# Altium footprint library CON-IDC.PcbLib: 62 footprints (part 1 of 4)
Each footprint in its own frame and in the unit in brackets; x right, y up, seen from the top. Pads: shape width x height; smd on the part's side, far side on the other; paste and mask are expansions set on the pad; w line width, h text height; cw(c..) or ccw(c..) is an arc to the next point about the centre after c.
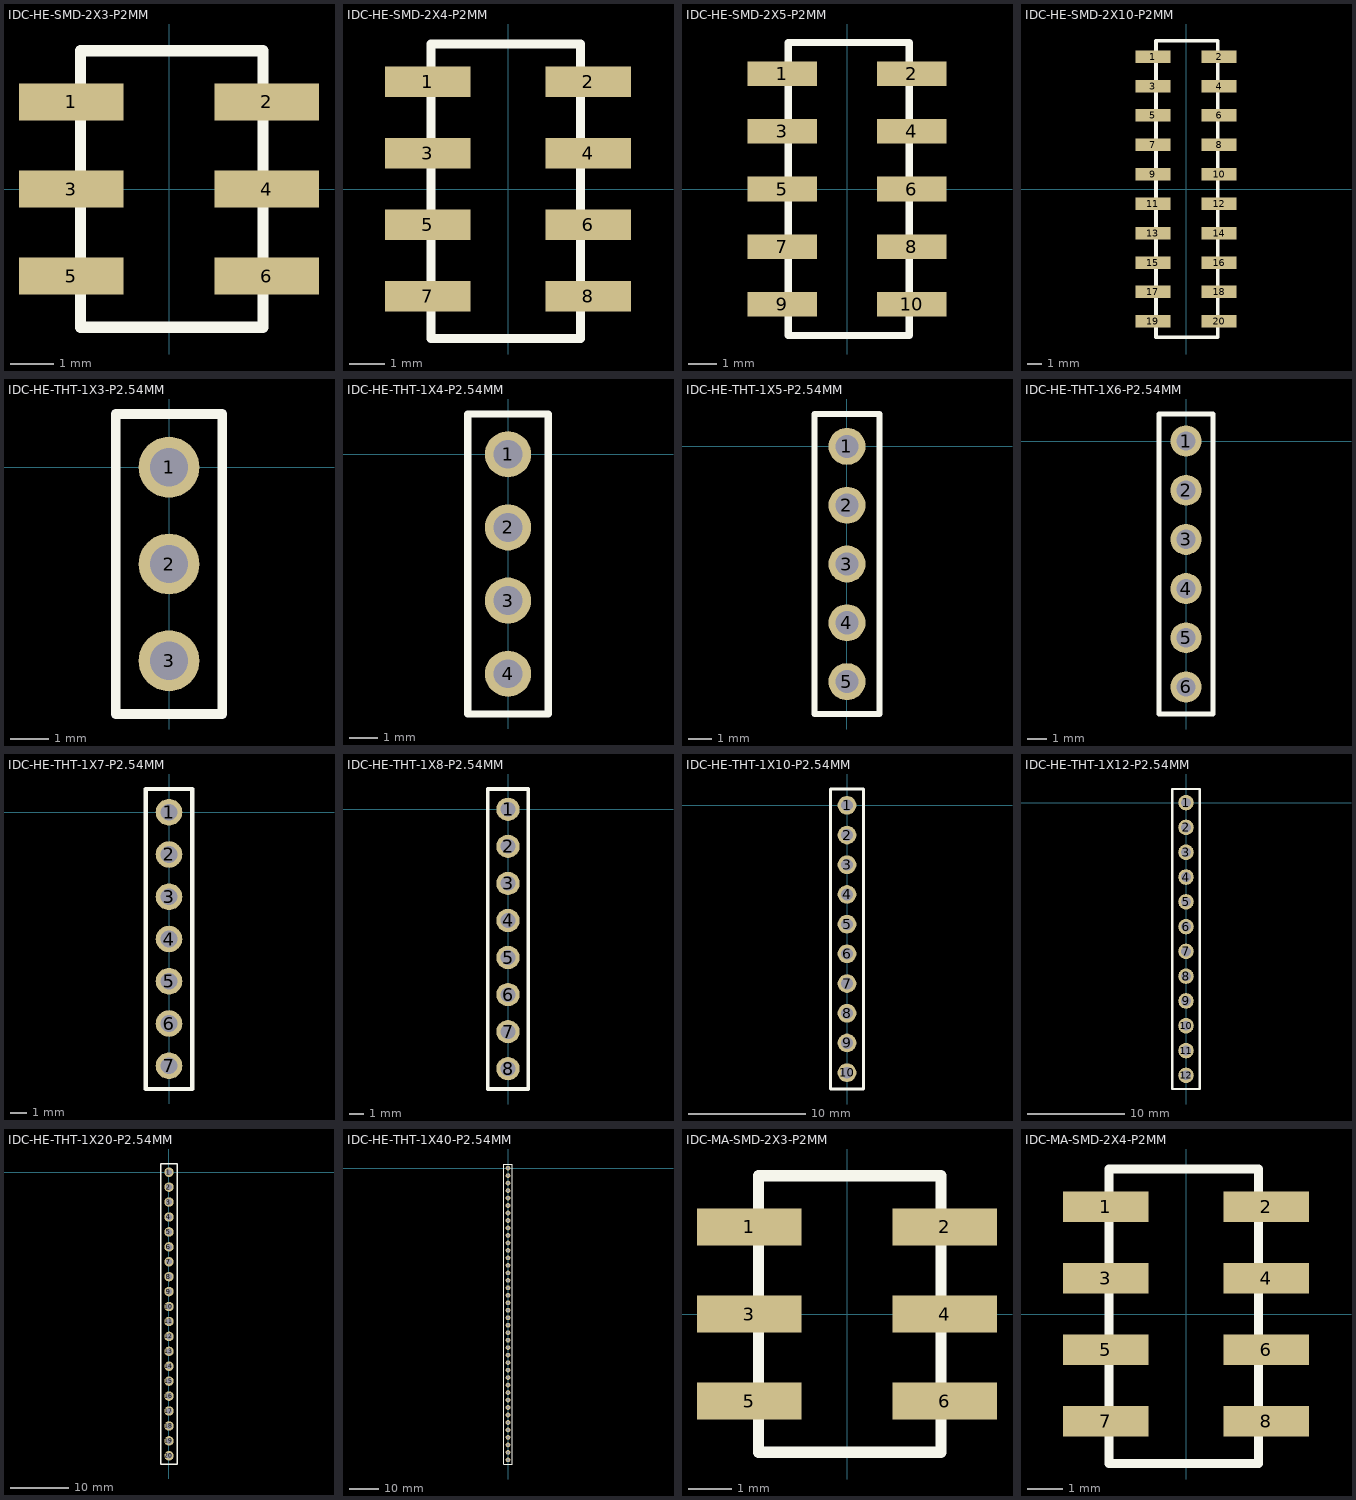
[diagram p0: the footprints below, top view; thin cyan lines are the x and y axes]

## IDC-HE-SMD-2X3-P2MM [mm] "IDC-HE-SMD-2X3-P2MM"
pads (6):
  rect 2.4x0.85 smd: 1(-2.245,2) 2(2.245,2) 3(-2.245,0) 4(2.245,0) 5(-2.245,-2) 6(2.245,-2)
Top Overlay:
  lines w0.254: -2.032,-3.175 2.159,-3.175 2.159,3.175 -2.032,3.175 -2.032,-3.175
3D body "CON-IDC-HE-SMD-2X3-P2MM.stp": height 4, standoff -0.2, extent -3.125,-3.032 3.125,2.968

## IDC-HE-SMD-2X4-P2MM [mm] "IDC-HE-SMD-2X4-P2MM"
pads (8):
  rect 2.4x0.85 smd: 1(-2.245,3) 2(2.245,3) 3(-2.245,1) 4(2.245,1) 5(-2.245,-1) 6(2.245,-1) 7(-2.245,-3) 8(2.245,-3)
Top Overlay:
  lines w0.254: -2.159,-4.191 -2.159,4.064 2.032,4.064 2.032,-4.191 -2.159,-4.191
3D body "CON-IDC-HE-SMD-2X4-P2MM.stp": height 4, standoff -0.2, extent -3.075,-4.063 3.175,3.937

## IDC-HE-SMD-2X5-P2MM [mm] "IDC-HE-SMD-2X5-P2MM"
pads (10):
  rect 2.4x0.85 smd: 1(-2.245,4) 2(2.245,4) 3(-2.245,2) 4(2.245,2) 5(-2.245,0) 6(2.245,0) 7(-2.245,-2) 8(2.245,-2) 9(-2.245,-4) 10(2.245,-4)
Top Overlay:
  lines w0.254: -2.032,-5.08 2.159,-5.08 2.159,5.08 -2.032,5.08 -2.032,-5.08
3D body "CON-IDC-HE-SMD-2X5-P2MM.stp": height 4, standoff -0.2, extent -3.175,-5 3.075,5

## IDC-HE-SMD-2X10-P2MM [mm] "IDC-HE-SMD-2X10-P2MM"
pads (20):
  rect 2.4x0.85 smd: 1(-2.245,9) 2(2.245,9) 3(-2.245,7) 4(2.245,7) 5(-2.245,5) 6(2.245,5) 7(-2.245,3) 8(2.245,3) 9(-2.245,1) 10(2.245,1) 11(-2.245,-1) 12(2.245,-1) 13(-2.245,-3) 14(2.245,-3) 15(-2.245,-5) 16(2.245,-5) 17(-2.245,-7) 18(2.245,-7) 19(-2.245,-9) 20(2.245,-9)
Top Overlay:
  lines w0.254: -2.032,-0.08 -2.032,10.08 2.159,10.08 2.159,-0.08 ; -2.032,0.08 -2.032,-10.08 2.159,-10.08 2.159,0.08
3D body "CON-IDC-HE-SMD-2X10-P2MM.stp": height 4, standoff -0.2, extent -3.125,-9.89 3.125,10.11

## IDC-HE-THT-1X3-P2.54MM [mm] "IDC-HE-THT-1X3-P2.54MM"
pads (3):
  round 1.6 hole 1: 1(0,0) 2(0,-2.54) 3(0,-5.08)
Top Overlay:
  lines w0.254: -1.397,-6.477 -1.397,-5.889 -1.397,-3.937 -1.397,-3.095 -1.397,-1.143 -1.397,-0.301 -1.397,1.397 1.397,1.397 1.397,-0.428 1.397,-1.143 1.397,-3.222 1.397,-3.937 1.397,-6.016 1.397,-6.477 -1.397,-6.477
3D body "CON-HEM.stp": height 8, standoff -3, extent -1.27,-6.35 1.27,-3.81
3D body "CON-HEM.stp": height 8, standoff -3, extent -1.27,-1.27 1.27,1.27
3D body "CON-HEM.stp": height 8, standoff -3, extent -1.27,-3.81 1.27,-1.27

## IDC-HE-THT-1X4-P2.54MM [mm] "IDC-HE-THT-1X4-P2.54MM"
pads (4):
  round 1.6 hole 1: 1(0,0) 2(0,-2.54) 3(0,-5.08) 4(0,-7.62)
Top Overlay:
  lines w0.254: -1.397,-9.017 1.397,-9.017 1.397,-6.016 1.397,-3.937 1.397,-3.222 1.397,-1.143 1.397,-0.428 1.397,1.397 -1.397,1.397 -1.397,-0.301 -1.397,-1.143 -1.397,-3.095 -1.397,-3.937 -1.397,-5.889 -1.397,-9.017
3D body "CON-HEM.stp": height 8, standoff -3, extent -1.27,-8.89 1.27,-6.35
3D body "CON-HEM.stp": height 8, standoff -3, extent -1.27,-3.81 1.27,-1.27
3D body "CON-HEM.stp": height 8, standoff -3, extent -1.27,-1.27 1.27,1.27
3D body "CON-HEM.stp": height 8, standoff -3, extent -1.27,-6.35 1.27,-3.81

## IDC-HE-THT-1X5-P2.54MM [mm] "IDC-HE-THT-1X5-P2.54MM"
pads (5):
  round 1.6 hole 1: 1(0,0) 2(0,-2.54) 3(0,-5.08) 4(0,-7.62) 5(0,-10.16)
Top Overlay:
  lines w0.254: -1.397,-11.557 1.397,-11.557 1.397,-8.556 1.397,-6.477 1.397,-6.016 1.397,-3.937 1.397,-3.222 1.397,-1.143 1.397,-0.428 1.397,1.397 -1.397,1.397 -1.397,-0.301 -1.397,-1.143 -1.397,-3.095 -1.397,-3.937 -1.397,-5.889 -1.397,-6.477 -1.397,-8.429 -1.397,-11.557
3D body "CON-HEM.stp": height 8, standoff -3, extent -1.27,-11.43 1.27,-8.89
3D body "CON-HEM.stp": height 8, standoff -3, extent -1.27,-8.89 1.27,-6.35
3D body "CON-HEM.stp": height 8, standoff -3, extent -1.27,-3.81 1.27,-1.27
3D body "CON-HEM.stp": height 8, standoff -3, extent -1.27,-1.27 1.27,1.27
3D body "CON-HEM.stp": height 8, standoff -3, extent -1.27,-6.35 1.27,-3.81

## IDC-HE-THT-1X6-P2.54MM [mm] "IDC-HE-THT-1X6-P2.54MM"
pads (6):
  round 1.6 hole 1: 1(0,0) 2(0,-2.54) 3(0,-5.08) 4(0,-7.62) 5(0,-10.16) 6(0,-12.7)
Top Overlay:
  lines w0.254: -1.397,-14.097 -1.397,-13.763 -1.397,-11.811 -1.397,-10.969 -1.397,-9.017 -1.397,-8.175 -1.397,-6.477 -1.397,-5.889 -1.397,-3.937 -1.397,-3.095 -1.397,-1.143 -1.397,-0.301 -1.397,1.397 1.397,1.397 1.397,-0.428 1.397,-1.143 1.397,-3.222 1.397,-3.937 1.397,-6.016 1.397,-6.477 1.397,-8.302 1.397,-9.017 1.397,-11.096 1.397,-11.811 1.397,-13.89 1.397,-14.097 -1.397,-14.097
3D body "CON-HEM.stp": height 8, standoff -3, extent -1.27,-13.97 1.27,-11.43
3D body "CON-HEM.stp": height 8, standoff -3, extent -1.27,-8.89 1.27,-6.35
3D body "CON-HEM.stp": height 8, standoff -3, extent -1.27,-11.43 1.27,-8.89
3D body "CON-HEM.stp": height 8, standoff -3, extent -1.27,-3.81 1.27,-1.27
3D body "CON-HEM.stp": height 8, standoff -3, extent -1.27,-1.27 1.27,1.27
3D body "CON-HEM.stp": height 8, standoff -3, extent -1.27,-6.35 1.27,-3.81

## IDC-HE-THT-1X7-P2.54MM [mm] "IDC-HE-THT-1X7-P2.54MM"
pads (7):
  round 1.6 hole 1: 1(0,0) 2(0,-2.54) 3(0,-5.08) 4(0,-7.62) 5(0,-10.16) 6(0,-12.7) 7(0,-15.24)
Top Overlay:
  lines w0.254: -1.397,-16.637 1.397,-16.637 1.397,-13.89 1.397,-11.811 1.397,-11.096 1.397,-9.017 1.397,-8.302 1.397,-6.477 1.397,-6.016 1.397,-3.937 1.397,-3.222 1.397,-1.143 1.397,-0.428 1.397,1.397 -1.397,1.397 -1.397,-0.301 -1.397,-1.143 -1.397,-3.095 -1.397,-3.937 -1.397,-5.889 -1.397,-6.477 -1.397,-8.175 -1.397,-9.017 -1.397,-10.969 -1.397,-11.811 -1.397,-13.763 -1.397,-16.637
3D body "CON-HEM.stp": height 8, standoff -3, extent -1.27,-6.35 1.27,-3.81
3D body "CON-HEM.stp": height 8, standoff -3, extent -1.27,-1.27 1.27,1.27
3D body "CON-HEM.stp": height 8, standoff -3, extent -1.27,-3.81 1.27,-1.27
3D body "CON-HEM.stp": height 8, standoff -3, extent -1.27,-11.43 1.27,-8.89
3D body "CON-HEM.stp": height 8, standoff -3, extent -1.27,-8.89 1.27,-6.35
3D body "CON-HEM.stp": height 8, standoff -3, extent -1.27,-13.97 1.27,-11.43
3D body "CON-HEM.stp": height 8, standoff -3, extent -1.27,-16.51 1.27,-13.97

## IDC-HE-THT-1X8-P2.54MM [mm] "IDC-HE-THT-1X8-P2.54MM"
pads (8):
  round 1.6 hole 1: 1(0,0) 2(0,-2.54) 3(0,-5.08) 4(0,-7.62) 5(0,-10.16) 6(0,-12.7) 7(0,-15.24) 8(0,-17.78)
Top Overlay:
  lines w0.254: -1.397,-19.177 -1.397,-13.763 -1.397,-11.811 -1.397,-10.969 -1.397,-9.017 -1.397,-8.175 -1.397,-6.477 -1.397,-5.889 -1.397,-3.937 -1.397,-3.095 -1.397,-1.143 -1.397,-0.301 -1.397,1.397 1.397,1.397 1.397,-0.428 1.397,-1.143 1.397,-3.222 1.397,-3.937 1.397,-6.016 1.397,-6.477 1.397,-8.302 1.397,-9.017 1.397,-11.096 1.397,-11.811 1.397,-13.89 1.397,-19.177 -1.397,-19.177
3D body "CON-HEM.stp": height 8, standoff -3, extent -1.27,-16.51 1.27,-13.97
3D body "CON-HEM.stp": height 8, standoff -3, extent -1.27,-13.97 1.27,-11.43
3D body "CON-HEM.stp": height 8, standoff -3, extent -1.27,-8.89 1.27,-6.35
3D body "CON-HEM.stp": height 8, standoff -3, extent -1.27,-11.43 1.27,-8.89
3D body "CON-HEM.stp": height 8, standoff -3, extent -1.27,-3.81 1.27,-1.27
3D body "CON-HEM.stp": height 8, standoff -3, extent -1.27,-1.27 1.27,1.27
3D body "CON-HEM.stp": height 8, standoff -3, extent -1.27,-6.35 1.27,-3.81
3D body "CON-HEM.stp": height 8, standoff -3, extent -1.27,-19.05 1.27,-16.51

## IDC-HE-THT-1X10-P2.54MM [mm] "IDC-HE-THT-1X10-P2.54MM"
pads (10):
  round 1.6 hole 1: 1(0,0) 2(0,-2.54) 3(0,-5.08) 4(0,-7.62) 5(0,-10.16) 6(0,-12.7) 7(0,-15.24) 8(0,-17.78) 9(0,-20.32) 10(0,-22.86)
Top Overlay:
  lines w0.254: -1.397,-20.875 -1.397,-18.923 ; -1.397,-19.177 -1.397,-18.843 -1.397,-16.891 -1.397,-16.049 -1.397,-14.097 -1.397,-13.255 -1.397,-11.557 -1.397,-10.969 -1.397,-9.017 -1.397,-8.175 -1.397,-6.223 -1.397,-5.381 -1.397,-3.683 ; -1.397,-16.383 -1.397,-18.081 -1.397,-18.923 ; -1.397,-6.477 -1.397,-5.889 -1.397,-3.937 -1.397,-3.095 -1.397,-1.143 -1.397,-0.301 -1.397,1.397 1.397,1.397 1.397,-0.428 1.397,-1.143 1.397,-3.222 1.397,-3.937 1.397,-6.016 1.397,-6.477 ; 1.397,-21.002 1.397,-18.923 ; 1.397,-19.177 1.397,-18.97 1.397,-16.891 1.397,-16.176 1.397,-14.097 1.397,-13.382 1.397,-11.557 1.397,-11.096 1.397,-9.017 1.397,-8.302 1.397,-6.223 1.397,-5.508 1.397,-3.683 ; 1.397,-16.383 1.397,-18.208 1.397,-18.923 ; -1.397,-18.923 -1.397,-20.621 -1.397,-21.463 -1.397,-24.257 1.397,-24.257 1.397,-21.463 1.397,-20.748 1.397,-18.923
3D body "CON-HEM.stp": height 8, standoff -3, extent -1.27,-3.81 1.27,-1.27
3D body "CON-HEM.stp": height 8, standoff -3, extent -1.27,-1.27 1.27,1.27
3D body "CON-HEM.stp": height 8, standoff -3, extent -1.27,-6.35 1.27,-3.81
3D body "CON-HEM.stp": height 8, standoff -3, extent -1.27,-8.89 1.27,-6.35
3D body "CON-HEM.stp": height 8, standoff -3, extent -1.27,-24.13 1.27,-21.59
3D body "CON-HEM.stp": height 8, standoff -3, extent -1.27,-21.59 1.27,-19.05
3D body "CON-HEM.stp": height 8, standoff -3, extent -1.27,-19.05 1.27,-16.51
3D body "CON-HEM.stp": height 8, standoff -3, extent -1.27,-16.51 1.27,-13.97
3D body "CON-HEM.stp": height 8, standoff -3, extent -1.27,-13.97 1.27,-11.43
3D body "CON-HEM.stp": height 8, standoff -3, extent -1.27,-11.43 1.27,-8.89

## IDC-HE-THT-1X12-P2.54MM [mm] "IDC-HE-THT-1X12-P2.54MM"
pads (12):
  round 1.6 hole 1: 1(0,0) 2(0,-2.54) 3(0,-5.08) 4(0,-7.62) 5(0,-10.16) 6(0,-12.7) 7(0,-15.24) 8(0,-17.78) 9(0,-20.32) 10(0,-22.86) 11(0,-25.4) 12(0,-27.94)
Top Overlay:
  lines w0.254: -1.397,-25.955 -1.397,-24.003 ; -1.397,-24.257 -1.397,-23.923 -1.397,-21.971 -1.397,-21.129 -1.397,-19.177 -1.397,-18.335 -1.397,-16.637 -1.397,-16.049 -1.397,-14.097 -1.397,-13.255 -1.397,-11.303 -1.397,-10.461 -1.397,-8.763 ; -1.397,-21.463 -1.397,-23.161 -1.397,-24.003 ; -1.397,-11.557 -1.397,-10.969 -1.397,-9.017 -1.397,-8.175 -1.397,-6.223 -1.397,-5.381 -1.397,-3.683 ; -1.397,-6.477 -1.397,-5.889 -1.397,-3.937 -1.397,-3.095 -1.397,-1.143 -1.397,-0.301 -1.397,1.397 1.397,1.397 1.397,-0.428 1.397,-1.143 1.397,-3.222 1.397,-3.937 1.397,-6.016 1.397,-6.477 ; 1.397,-26.082 1.397,-24.003 ; 1.397,-24.257 1.397,-24.05 1.397,-21.971 1.397,-21.256 1.397,-19.177 1.397,-18.462 1.397,-16.637 1.397,-16.176 1.397,-14.097 1.397,-13.382 1.397,-11.303 1.397,-10.588 1.397,-8.763 ; 1.397,-21.463 1.397,-23.288 1.397,-24.003 ; 1.397,-11.557 1.397,-11.096 1.397,-9.017 1.397,-8.302 1.397,-6.223 1.397,-5.508 1.397,-3.683 ; -1.397,-24.003 -1.397,-25.701 -1.397,-26.543 -1.397,-29.337 1.397,-29.337 1.397,-26.543 1.397,-25.828 1.397,-24.003
3D body "CON-HEM.stp": height 8, standoff -3, extent -1.27,-16.51 1.27,-13.97
3D body "CON-HEM.stp": height 8, standoff -3, extent -1.27,-19.05 1.27,-16.51
3D body "CON-HEM.stp": height 8, standoff -3, extent -1.27,-21.59 1.27,-19.05
3D body "CON-HEM.stp": height 8, standoff -3, extent -1.27,-24.13 1.27,-21.59
3D body "CON-HEM.stp": height 8, standoff -3, extent -1.27,-26.67 1.27,-24.13
3D body "CON-HEM.stp": height 8, standoff -3, extent -1.27,-29.21 1.27,-26.67
3D body "CON-HEM.stp": height 8, standoff -3, extent -1.27,-13.97 1.27,-11.43
3D body "CON-HEM.stp": height 8, standoff -3, extent -1.27,-11.43 1.27,-8.89
3D body "CON-HEM.stp": height 8, standoff -3, extent -1.27,-8.89 1.27,-6.35
3D body "CON-HEM.stp": height 8, standoff -3, extent -1.27,-3.81 1.27,-1.27
3D body "CON-HEM.stp": height 8, standoff -3, extent -1.27,-1.27 1.27,1.27
3D body "CON-HEM.stp": height 8, standoff -3, extent -1.27,-6.35 1.27,-3.81

## IDC-HE-THT-1X20-P2.54MM [mm] "IDC-HE-THT-1X20-P2.54MM"
pads (20):
  round 1.6 hole 1: 1(0,0) 2(0,-2.54) 3(0,-5.08) 4(0,-7.62) 5(0,-10.16) 6(0,-12.7) 7(0,-15.24) 8(0,-17.78) 9(0,-20.32) 10(0,-22.86) 11(0,-25.4) 12(0,-27.94) 13(0,-30.48) 14(0,-33.02) 15(0,-35.56) 16(0,-38.1) 17(0,-40.64) 18(0,-43.18) 19(0,-45.72) 20(0,-48.26)
Top Overlay:
  lines w0.254: -1.397,-39.497 -1.397,-38.909 -1.397,-36.957 -1.397,-36.115 -1.397,-34.163 -1.397,-33.321 -1.397,-31.623 ; -1.397,-36.703 -1.397,-38.401 -1.397,-39.243 -1.397,-41.195 -1.397,-42.037 -1.397,-43.989 -1.397,-44.577 -1.397,-46.275 -1.397,-47.117 -1.397,-49.657 1.397,-49.657 1.397,-47.117 1.397,-46.402 1.397,-44.577 1.397,-44.116 1.397,-42.037 1.397,-41.322 1.397,-39.243 1.397,-38.528 1.397,-36.703 ; -1.397,-34.417 -1.397,-33.829 -1.397,-31.877 -1.397,-31.035 -1.397,-29.083 -1.397,-28.241 -1.397,-26.543 ; -1.397,-29.337 -1.397,-26.543 ; -1.397,-25.955 -1.397,-24.003 ; -1.397,-24.257 -1.397,-23.923 -1.397,-21.971 -1.397,-21.129 -1.397,-19.177 -1.397,-18.335 -1.397,-16.637 -1.397,-16.049 -1.397,-14.097 -1.397,-13.255 -1.397,-11.303 -1.397,-10.461 -1.397,-8.763 ; -1.397,-21.463 -1.397,-23.161 -1.397,-24.003 ; -1.397,-11.557 -1.397,-10.969 -1.397,-9.017 -1.397,-8.175 -1.397,-6.223 -1.397,-5.381 -1.397,-3.683 ; -1.397,-6.477 -1.397,-5.889 -1.397,-3.937 -1.397,-3.095 -1.397,-1.143 -1.397,-0.301 -1.397,1.397 1.397,1.397 1.397,-0.428 1.397,-1.143 1.397,-3.222 1.397,-3.937 1.397,-6.016 1.397,-6.477 ; 1.397,-39.497 1.397,-39.036 1.397,-36.957 1.397,-36.242 1.397,-34.163 1.397,-33.448 1.397,-31.623 ; 1.397,-34.417 1.397,-33.956 1.397,-31.877 1.397,-31.162 1.397,-29.083 1.397,-28.368 1.397,-26.543 ; 1.397,-29.337 1.397,-26.543 ; 1.397,-26.082 1.397,-24.003 ; 1.397,-24.257 1.397,-24.05 1.397,-21.971 1.397,-21.256 1.397,-19.177 1.397,-18.462 1.397,-16.637 1.397,-16.176 1.397,-14.097 1.397,-13.382 1.397,-11.303 1.397,-10.588 1.397,-8.763 ; 1.397,-21.463 1.397,-23.288 1.397,-24.003 ; 1.397,-11.557 1.397,-11.096 1.397,-9.017 1.397,-8.302 1.397,-6.223 1.397,-5.508 1.397,-3.683 ; -1.397,-26.543 -1.397,-25.701 -1.397,-24.003 ; 1.397,-26.543 1.397,-25.828 1.397,-24.003
3D body "CON-HEM.stp": height 8, standoff -3, extent -1.27,-6.35 1.27,-3.81
3D body "CON-HEM.stp": height 8, standoff -3, extent -1.27,-1.27 1.27,1.27
3D body "CON-HEM.stp": height 8, standoff -3, extent -1.27,-3.81 1.27,-1.27
3D body "CON-HEM.stp": height 8, standoff -3, extent -1.27,-8.89 1.27,-6.35
3D body "CON-HEM.stp": height 8, standoff -3, extent -1.27,-11.43 1.27,-8.89
3D body "CON-HEM.stp": height 8, standoff -3, extent -1.27,-13.97 1.27,-11.43
3D body "CON-HEM.stp": height 8, standoff -3, extent -1.27,-29.21 1.27,-26.67
3D body "CON-HEM.stp": height 8, standoff -3, extent -1.27,-26.67 1.27,-24.13
3D body "CON-HEM.stp": height 8, standoff -3, extent -1.27,-24.13 1.27,-21.59
3D body "CON-HEM.stp": height 8, standoff -3, extent -1.27,-21.59 1.27,-19.05
3D body "CON-HEM.stp": height 8, standoff -3, extent -1.27,-19.05 1.27,-16.51
3D body "CON-HEM.stp": height 8, standoff -3, extent -1.27,-16.51 1.27,-13.97
3D body "CON-HEM.stp": height 8, standoff -3, extent -1.27,-44.45 1.27,-41.91
3D body "CON-HEM.stp": height 8, standoff -3, extent -1.27,-46.99 1.27,-44.45
3D body "CON-HEM.stp": height 8, standoff -3, extent -1.27,-49.53 1.27,-46.99
3D body "CON-HEM.stp": height 8, standoff -3, extent -1.27,-41.91 1.27,-39.37
3D body "CON-HEM.stp": height 8, standoff -3, extent -1.27,-39.37 1.27,-36.83
3D body "CON-HEM.stp": height 8, standoff -3, extent -1.27,-36.83 1.27,-34.29
3D body "CON-HEM.stp": height 8, standoff -3, extent -1.27,-31.75 1.27,-29.21
3D body "CON-HEM.stp": height 8, standoff -3, extent -1.27,-34.29 1.27,-31.75

## IDC-HE-THT-1X40-P2.54MM [mm] "IDC-HE-THT-1X40-P2.54MM"
pads (40):
  round 1.6 hole 1: 1(0,0) 2(0,-2.54) 3(0,-5.08) 4(0,-7.62) 5(0,-10.16) 6(0,-12.7) 7(0,-15.24) 8(0,-17.78) 9(0,-20.32) 10(0,-22.86) 11(0,-25.4) 12(0,-27.94) 13(0,-30.48) 14(0,-33.02) 15(0,-35.56) 16(0,-38.1) 17(0,-40.64) 18(0,-43.18) 19(0,-45.72) 20(0,-48.26) 21(0,-50.8) 22(0,-53.34) 23(0,-55.88) 24(0,-58.42) 25(0,-60.96) 26(0,-63.5) 27(0,-66.04) 28(0,-68.58) 29(0,-71.12) 30(0,-73.66) 31(0,-76.2) 32(0,-78.74) 33(0,-81.28) 34(0,-83.82) 35(0,-86.36) 36(0,-88.9) 37(0,-91.44) 38(0,-93.98) 39(0,-96.52) 40(0,-99.06)
Top Overlay:
  drawing of 194 lines, arcs and shapes, not listed
3D body "CON-HEM.stp": height 8, standoff -3, extent -1.27,-87.63 1.27,-85.09
3D body "CON-HEM.stp": height 8, standoff -3, extent -1.27,-90.17 1.27,-87.63
3D body "CON-HEM.stp": height 8, standoff -3, extent -1.27,-92.71 1.27,-90.17
3D body "CON-HEM.stp": height 8, standoff -3, extent -1.27,-95.25 1.27,-92.71
3D body "CON-HEM.stp": height 8, standoff -3, extent -1.27,-97.79 1.27,-95.25
3D body "CON-HEM.stp": height 8, standoff -3, extent -1.27,-100.33 1.27,-97.79
3D body "CON-HEM.stp": height 8, standoff -3, extent -1.27,-85.09 1.27,-82.55
3D body "CON-HEM.stp": height 8, standoff -3, extent -1.27,-82.55 1.27,-80.01
3D body "CON-HEM.stp": height 8, standoff -3, extent -1.27,-77.47 1.27,-74.93
3D body "CON-HEM.stp": height 8, standoff -3, extent -1.27,-80.01 1.27,-77.47
3D body "CON-HEM.stp": height 8, standoff -3, extent -1.27,-62.23 1.27,-59.69
3D body "CON-HEM.stp": height 8, standoff -3, extent -1.27,-64.77 1.27,-62.23
3D body "CON-HEM.stp": height 8, standoff -3, extent -1.27,-67.31 1.27,-64.77
3D body "CON-HEM.stp": height 8, standoff -3, extent -1.27,-69.85 1.27,-67.31
3D body "CON-HEM.stp": height 8, standoff -3, extent -1.27,-72.39 1.27,-69.85
3D body "CON-HEM.stp": height 8, standoff -3, extent -1.27,-74.93 1.27,-72.39
3D body "CON-HEM.stp": height 8, standoff -3, extent -1.27,-59.69 1.27,-57.15
3D body "CON-HEM.stp": height 8, standoff -3, extent -1.27,-57.15 1.27,-54.61
3D body "CON-HEM.stp": height 8, standoff -3, extent -1.27,-52.07 1.27,-49.53
3D body "CON-HEM.stp": height 8, standoff -3, extent -1.27,-54.61 1.27,-52.07
3D body "CON-HEM.stp": height 8, standoff -3, extent -1.27,-36.83 1.27,-34.29
3D body "CON-HEM.stp": height 8, standoff -3, extent -1.27,-39.37 1.27,-36.83
3D body "CON-HEM.stp": height 8, standoff -3, extent -1.27,-41.91 1.27,-39.37
3D body "CON-HEM.stp": height 8, standoff -3, extent -1.27,-44.45 1.27,-41.91
3D body "CON-HEM.stp": height 8, standoff -3, extent -1.27,-46.99 1.27,-44.45
3D body "CON-HEM.stp": height 8, standoff -3, extent -1.27,-49.53 1.27,-46.99
3D body "CON-HEM.stp": height 8, standoff -3, extent -1.27,-34.29 1.27,-31.75
3D body "CON-HEM.stp": height 8, standoff -3, extent -1.27,-31.75 1.27,-29.21
3D body "CON-HEM.stp": height 8, standoff -3, extent -1.27,-26.67 1.27,-24.13
3D body "CON-HEM.stp": height 8, standoff -3, extent -1.27,-29.21 1.27,-26.67
3D body "CON-HEM.stp": height 8, standoff -3, extent -1.27,-11.43 1.27,-8.89
3D body "CON-HEM.stp": height 8, standoff -3, extent -1.27,-13.97 1.27,-11.43
3D body "CON-HEM.stp": height 8, standoff -3, extent -1.27,-16.51 1.27,-13.97
3D body "CON-HEM.stp": height 8, standoff -3, extent -1.27,-19.05 1.27,-16.51
3D body "CON-HEM.stp": height 8, standoff -3, extent -1.27,-21.59 1.27,-19.05
3D body "CON-HEM.stp": height 8, standoff -3, extent -1.27,-24.13 1.27,-21.59
3D body "CON-HEM.stp": height 8, standoff -3, extent -1.27,-8.89 1.27,-6.35
3D body "CON-HEM.stp": height 8, standoff -3, extent -1.27,-6.35 1.27,-3.81
3D body "CON-HEM.stp": height 8, standoff -3, extent -1.27,-1.27 1.27,1.27
3D body "CON-HEM.stp": height 8, standoff -3, extent -1.27,-3.81 1.27,-1.27

## IDC-MA-SMD-2X3-P2MM [mm] "IDC-MA-SMD-2X3-P2MM"
pads (6):
  rect 2.4x0.85 smd: 1(-2.245,2) 2(2.245,2) 3(-2.245,0) 4(2.245,0) 5(-2.245,-2) 6(2.245,-2)
Top Overlay:
  lines w0.254: -2.032,-3.175 -2.032,3.175 2.159,3.175 2.159,-3.175 -2.032,-3.175
3D body "CON-IDC-MA-SMD-2X3-P2MM.stp": height 6.7, standoff 0, extent -3.1,-3.032 3.1,2.968

## IDC-MA-SMD-2X4-P2MM [mm] "IDC-MA-SMD-2X4-P2MM"
pads (8):
  rect 2.4x0.85 smd: 1(-2.245,3) 2(2.245,3) 3(-2.245,1) 4(2.245,1) 5(-2.245,-1) 6(2.245,-1) 7(-2.245,-3) 8(2.245,-3)
Top Overlay:
  lines w0.254: -2.159,-4.191 2.032,-4.191 2.032,4.064 -2.159,4.064 -2.159,-4.191
3D body "CON-IDC-MA-SMD-2X4-P2MM.stp": height 6.7, standoff 0, extent -3.1,-4.016 3.1,3.984